# Altium footprint library PLD2-50.PcbLib: 1 footprints
Each footprint in its own frame and in the unit in brackets; x right, y up, seen from the top. Pads: shape width x height; smd on the part's side, far side on the other; paste and mask are expansions set on the pad; w line width, h text height; cw(c..) or ccw(c..) is an arc to the next point about the centre after c.
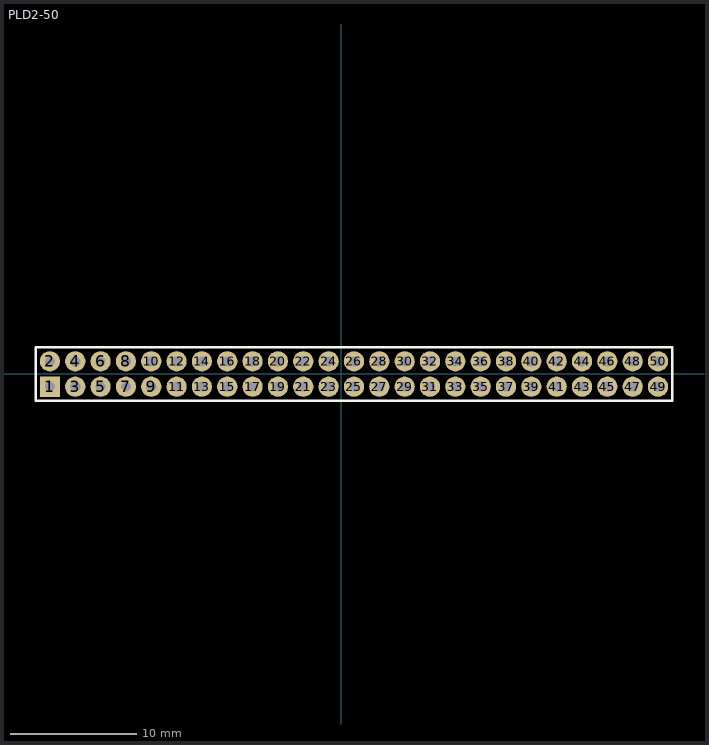
[diagram p0: the footprint, top view; thin cyan lines are the x and y axes]

## PLD2-50 [mm]
pads (50):
  rect 1.6x1.6 hole 0.8: 1(-23,-1)
  round 1.6 hole 0.8: 2(-23,1) 3(-21,-1) 4(-21,1) 5(-19,-1) 6(-19,1) 7(-17,-1) 8(-17,1) 9(-15,-1) 10(-15,1) 11(-13,-1) 12(-13,1) 13(-11,-1) 14(-11,1) 15(-9,-1) 16(-9,1) 17(-7,-1) 18(-7,1) 19(-5,-1) 20(-5,1) 21(-3,-1) 22(-3,1) 23(-1,-1) 24(-1,1) 25(1,-1) 26(1,1) 27(3,-1) 28(3,1) 29(5,-1) 30(5,1) 31(7,-1) 32(7,1) 33(9,-1) 34(9,1) 35(11,-1) 36(11,1) 37(13,-1) 38(13,1) 39(15,-1) 40(15,1) 41(17,-1) 42(17,1) 43(19,-1) 44(19,1) 45(21,-1) 46(21,1) 47(23,-1) 48(23,1) 49(25,-1) 50(25,1)
Top Overlay:
  lines w0.2: -24.11,-2.107 26.116,-2.107 26.116,2.107 -24.11,2.107 -24.11,-2.107
  text "." at -24.807,-1.185 h3
Mechanical 13:
  text ".Designator" at -25,-3.763 h1.52
3D body "PLD2-50.step": height 6, standoff -2.8, extent -24,-2 26,2